# Altium schematic symbol library tranf13.SchLib: 4 symbols
Pins are listed as number, name and electrical type; pins without a type are passive.

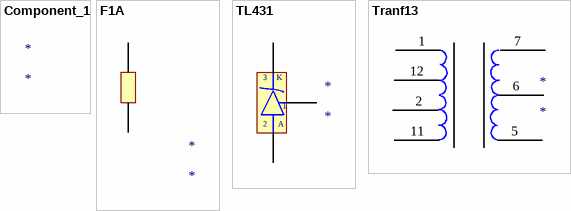
[diagram p0: symbols Component_1 to Tranf13]

## Component_1
designator *

## F1A
designator *
pins: ?1, ?2

## TL431
designator *
pins: 1, 2, 3
text: K; A

## Tranf13
designator *
pins: 1 0, 2, 5, 6, 7, 11 3, 12 1